# Altium schematic symbol library sdl.SchLib: 9 symbols
Pins are listed as number, name and electrical type; pins without a type are passive.

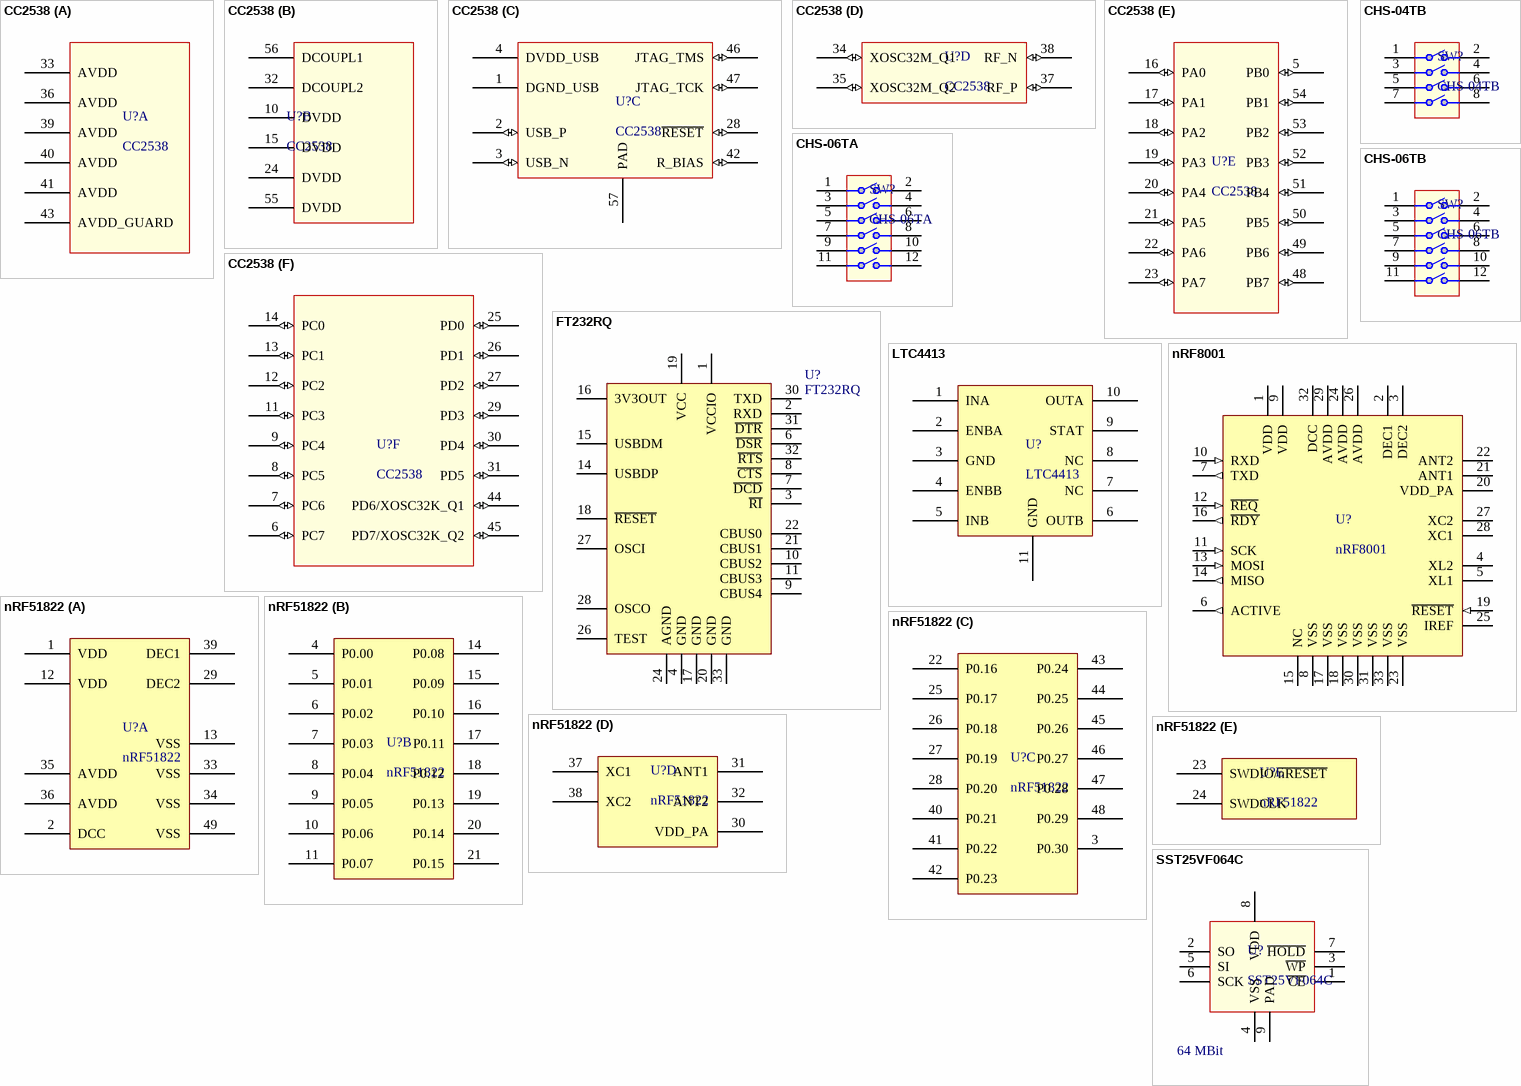
[diagram p0: symbols CC2538 to SST25VF064C]

## CC2538
designator U?
A Powerful System-On-Chip for 2.4-GHz IEEE 802.15.4, 6LoWPAN  and ZigBee Applications; Supplier 1: Digi-Key; Supplier Part Number 1: 296-35797-1-ND
footprint QFN56 (QFN, 56-Leads, Body 8.00x8.00mm, Pitch 0.50mm, Thermal Pad 6.60x6.60mm, IPC Medium Density)
part A pins: 33 AVDD (power), 36 AVDD (power), 39 AVDD (power), 40 AVDD (power), 41 AVDD (power), 43 AVDD_GUARD (power)
part B pins: 10 DVDD (power), 15 DVDD (power), 24 DVDD (power), 32 DCOUPL2 (power), 55 DVDD (power), 56 DCOUPL1 (power)
part C pins: 1 DGND_USB (power), 2 USB_P (io), 3 USB_N (io), 4 DVDD_USB (power), 28 ~{RESET} (io), 42 R_BIAS (io), 46 JTAG_TMS (io), 47 JTAG_TCK (io), 57 PAD (power)
part D pins: 34 XOSC32M_Q1 (io), 35 XOSC32M_Q2 (io), 37 RF_P (io), 38 RF_N (io)
part E pins: 5 PB0 (io), 16 PA0 (io) "Bootloader UART RXD", 17 PA1 (io) "Bootloader UART TXD", 18 PA2 (io) "Bootloader SSI CLK", 19 PA3 (io) "Bootloader SSI SEL", 20 PA4 (io) "Bootloader SSI RXD", 21 PA5 (io) "Bootloader SSI TXD", 22 PA6 (io), 23 PA7 (io), 48 PB7 (io), 49 PB6 (io), 50 PB5 (io), 51 PB4 (io), 52 PB3 (io), 53 PB2 (io), 54 PB1 (io)
part F pins: 6 PC7 (io), 7 PC6 (io), 8 PC5 (io), 9 PC4 (io), 11 PC3 (io), 12 PC2 (io), 13 PC1 (io), 14 PC0 (io), 25 PD0 (io), 26 PD1 (io), 27 PD2 (io), 29 PD3 (io), 30 PD4 (io), 31 PD5 (io), 44 PD6/XOSC32K_Q1 (io), 45 PD7/XOSC32K_Q2 (io)

## CHS-04TB
designator SW?
SLIDE SWITCHES; Supplier 1: Digi-Key; Supplier Part Number 1: 563-1008-1-ND
footprint CHS04TB (4 POS DIP SWITCH)
pins: 1, 2, 3, 4, 5, 6, 7, 8

## CHS-06TA
designator SW?
SLIDE SWITCHES; Supplier 1: Digi-Key; Supplier Part Number 1: 563-1009-1-ND
footprint CHS-06TA (6 POS DIP SWITCH)
pins: 1, 2, 3, 4, 5, 6, 7, 8, 9, 10, 11, 12

## CHS-06TB
designator SW?
SLIDE SWITCHES; Supplier 1: Digi-Key; Supplier Part Number 1: 563-1010-1-ND
footprint CHS-06TB (6 POS DIP SWITCH)
pins: 1, 2, 3, 4, 5, 6, 7, 8, 9, 10, 11, 12

## FT232RQ
designator U?
FT232R USB UART; Manufacturer: *; Note: *; ManufacturerPartNo: *; Supplier 1: Digi-Key; Supplier Part Number 1: 768-1008-1-ND
footprint QFN-32
pins: 1 VCCIO, 2 RXD, 3 ~{RI}, 4 GND, 6 ~{DSR}, 7 ~{DCD}, 8 ~{CTS}, 9 CBUS4, 10 CBUS2, 11 CBUS3, 14 USBDP, 15 USBDM, 16 3V3OUT, 17 GND, 18 ~{RESET}, 19 VCC, 20 GND, 21 CBUS1, 22 CBUS0, 24 AGND, 26 TEST, 27 OSCI, 28 OSCO, 30 TXD, 31 ~{DTR}, 32 ~{RTS}, 33 GND
2 alternate drawings of the same symbol

## LTC4413
designator U?
Dual 2.6A, 2.5V to 5.5V,  Ideal Diodes in 3mm × 3mm DFN; Supplier 1: Digi-Key; Supplier Part Number 1: LTC4413EDD#TRPBFCT-ND
footprint DFN-10 (QFN, 10-Leads, Body 3.00x3.00mm, Pitch 0.50mm, Thermal Pad 1.65x2.38mm, IPC Medium Density)
pins: 1 INA, 2 ENBA, 3 GND, 4 ENBB, 5 INB, 6 OUTB, 7 NC, 8 NC, 9 STAT, 10 OUTA, 11 GND

## nRF8001
designator U?
Single-chip Bluetooth low energy solution; Supplier 1: Digi-Key; Supplier Part Number 1: 1490-1026-ND
footprint QFN32 (QFN, 32-Leads, Body 5.00x5.00mm, Pitch 0.50mm, Thermal Pad 3.60x3.60mm, IPC Medium Density)
pins: 1 VDD (power), 2 DEC1 (power), 3 DEC2 (power), 4 XL2, 5 XL1, 6 ACTIVE (out), 7 TXD (out), 8 VSS (power), 9 VDD (power), 10 RXD (in), 11 SCK (in), 12 ~{REQ} (in), 13 MOSI (in), 14 MISO (out), 15 NC, 16 ~{RDY} (out), 17 VSS, 18 VSS, 19 ~{RESET} (in), 20 VDD_PA (power), 21 ANT1, 22 ANT2, 23 VSS (power), 24 AVDD (power), 25 IREF, 26 AVDD, 27 XC2, 28 XC1, 29 AVDD (power), 30 VSS (power), 31 VSS (power), 32 DCC (power), 33 VSS (power)

## nRF51822
designator U?
Multiprotocol Bluetooth® low energy/2.4 GHz RF System on Chip; Supplier 1: Digi-Key; Supplier Part Number 1: 1490-1032-1-ND
footprint QFN-48 (QFN, 48-Leads, Body 6.00x6.00mm, Pitch 0.40mm, Thermal Pad 4.60x4.60mm, IPC Medium Density)
part A pins: 1 VDD, 2 DCC, 12 VDD, 13 VSS, 29 DEC2, 33 VSS, 34 VSS, 35 AVDD, 36 AVDD, 39 DEC1, 49 VSS
part B pins: 4 P0.00, 5 P0.01, 6 P0.02, 7 P0.03, 8 P0.04, 9 P0.05, 10 P0.06, 11 P0.07, 14 P0.08, 15 P0.09, 16 P0.10, 17 P0.11, 18 P0.12, 19 P0.13, 20 P0.14, 21 P0.15
part C pins: 3 P0.30, 22 P0.16, 25 P0.17, 26 P0.18, 27 P0.19, 28 P0.20, 40 P0.21, 41 P0.22, 42 P0.23, 43 P0.24, 44 P0.25, 45 P0.26, 46 P0.27, 47 P0.28, 48 P0.29
part D pins: 30 VDD_PA, 31 ANT1, 32 ANT2, 37 XC1, 38 XC2
part E pins: 23 SWDIO/~{nRESET}, 24 SWDCLK

## SST25VF064C
designator U?  Capacity: 64 MBit
64 Mbit SPI Serial Dual I/O Flash; Supplier 1: Digi-Key; Supplier Part Number 1: SST25VF064C-80-4I-Q2AE-CT-ND
footprint WSON (QFN, 8-Leads, Body 6.00x5.00mm, Pitch 1.27mm, Thermal Pad 3.40x4.00mm, IPC Medium Density)
pins: 1 ~{CE}, 2 SO, 3 ~{WP}, 4 VSS, 5 SI, 6 SCK, 7 ~{HOLD}, 8 VDD, 9 PAD